# Altium footprint library SnapEDApcb.PcbLib: 1 footprints
Each footprint in its own frame and in the unit in brackets; x right, y up, seen from the top. Pads: shape width x height; smd on the part's side, far side on the other; paste and mask are expansions set on the pad; w line width, h text height; cw(c..) or ccw(c..) is an arc to the next point about the centre after c.
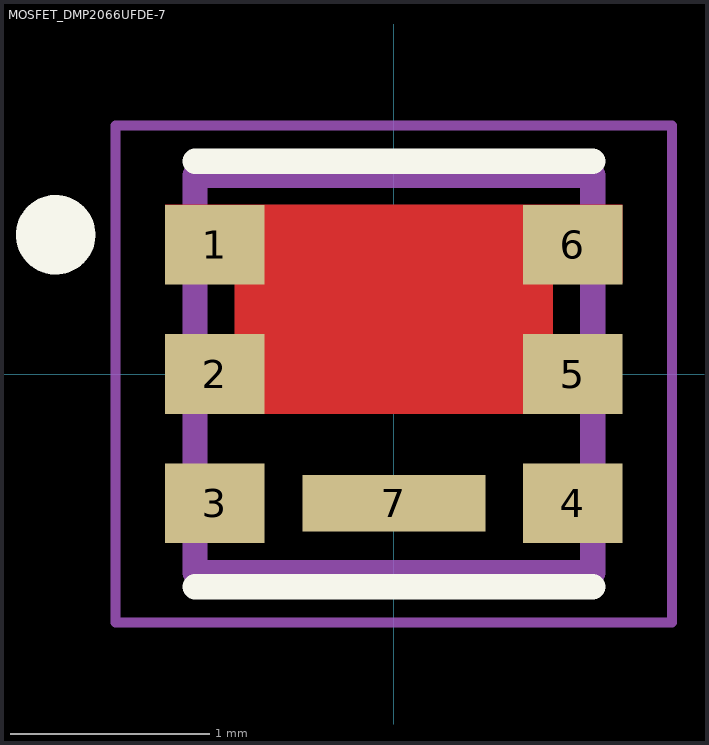
[diagram p0: the footprint, top view; thin cyan lines are the x and y axes]

## MOSFET_DMP2066UFDE-7 [mm]
pads (7):
  rect 0.5x0.4 smd: 1(-0.9,0.65) 2(-0.9,0) 3(-0.9,-0.65) 4(0.9,-0.65) 5(0.9,0) 6(0.9,0.65)
  rect 0.92x0.285 smd: 7(0,-0.65)
Top Layer:
  region: 1.15,0.46 0.8,0.46 0.8,0.19 1.13,0.19 1.13,-0.2 -1.15,-0.2 -1.15,0.19 -0.8,0.19 -0.8,0.46 -1.15,0.46 -1.15,0.85 1.15,0.85
Top Overlay:
  circle w0.2: c-1.7,0.7 r0.1
  lines w0.127: -1,-1.07 1,-1.07 ; -1,1.07 1,1.07
Top Paste:
  region: 0.46,-0.045 -0.46,-0.045 -0.46,0.695 0.46,0.695
Top Solder:
  region: 0.64,-0.3 -0.661,-0.3 -0.661,0.95 0.64,0.95
Mechanical 13:
  lines w0.127: -1,-1 1,-1 1,1 -1,1 -1,-1
Mechanical 15:
  lines w0.05: -1.4,-1.25 1.4,-1.25 1.4,1.25 -1.4,1.25 -1.4,-1.25